# Altium schematic symbol library BAT62-03W.SchLib: 1 symbol
Pins are listed as number, name and electrical type; pins without a type are passive.

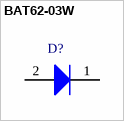
[diagram p0: symbol BAT62-03W]

## BAT62-03W
designator D?
Silicon Schottky Diode, 20 mA IF Max, SOD323, Green; Manufacturer: Infineon; PartNumber: BAT62-03W; Configuration: Single; CT (typ): 0.35 pF; Green: yes; Group: RF Signal Detection + Power Leveling; IF (max): 20 mA; VF (typ): 0.58 V; VR (max): 40 V; DatasheetVersion: Jun-2011; PackageReference: SOD323; PackageDescription: 2-Pin Small Outline Diode Package, 1.25 x 1.7 mm Body; Supplier 1: Mouser; Supplier Part Number 1: N/A; Mounting Technology: Surface Mount; ComponentLink1Description: Manufacturer URL; ComponentLink1URL: http://www.infineon.com/; ComponentLink2Description: Datasheet; ComponentLink2URL: http://www.infineon.com/dgdl/bat62series.pdf?folderId=db3a304314dca389011518104e5d0df2&fileId=db3a304314dca3890115181141bf0df3&location=en.Products.RF.RF_Mixer___Detector_Schottky_Diodes.DATASHEET.bat62series.pdf; ComponentLink3Description: Package Specification; ComponentLink3URL: http://www.infineon.com/dgdl/SOD323-Package_Overview.pdf?folderId=db3a30431936bc4b011952aab84f3bbe&fileId=db3a30431936bc4b011952beed653be3
footprint INF-SOD323_V (SOD, 2-Leads, Body 1.7x1.25 mm)
pins: 1 K, 2 A